# EAGLE library part NE555DR (library ecad)
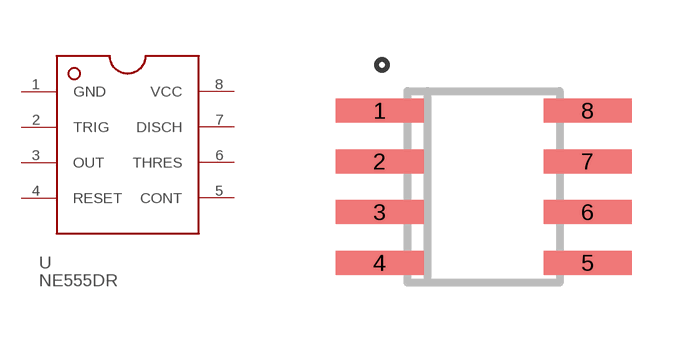
[diagram p0: symbol with the pads of SO08; footprint SO08]

Designator prefix U

## NE555DR  [SO08]
1  GND  pas
2  TRIG  pas
3  OUT  pas
4  RESET  pas
5  CONT  pas
6  THRES  pas
7  DISCH  pas
8  VCC  pas

## Footprint SO08 (pad centres in mm)
smd 2.2 x 0.6: 1 -2.6,1.905; 2 -2.6,0.635; 3 -2.6,-0.635; 4 -2.6,-1.905; 5 2.6,-1.905; 6 2.6,-0.635; 7 2.6,0.635; 8 2.6,1.905